# EAGLE library part USB_MICRO-B (library SparkFun-Connectors)
USB Type Micro-B Connector Male/female and PTH/SMT variants SparkFun Products: SparkFun microB USB Breakout <https://www.sparkfun.com/products/12035> SparkFun USB microB Plug Breakout <https://www.sparkfun.com/products/10031> SparkFun ESP8266 Thing <https://www.sparkfun.com/products/13231>
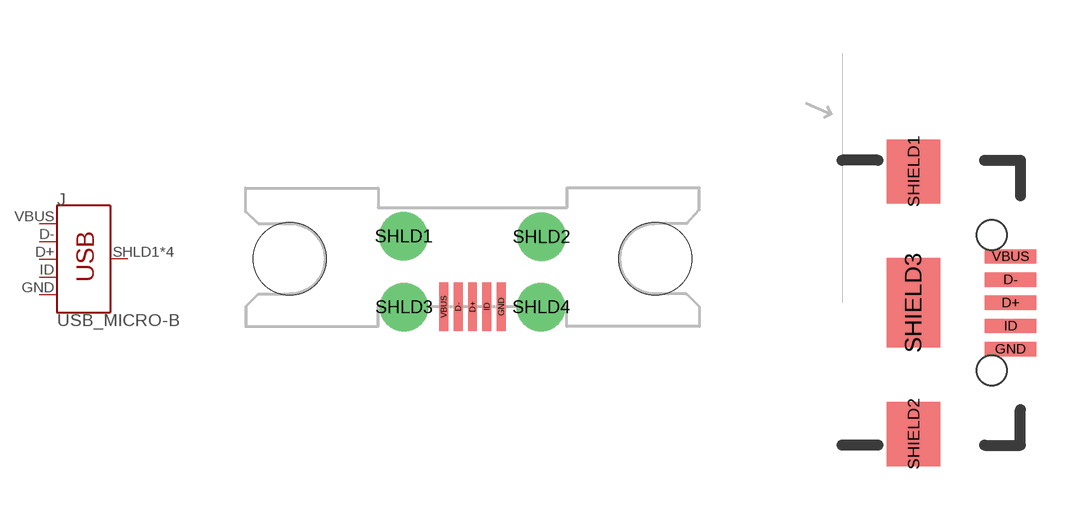
[diagram p43: symbol with the pads of USB_MICROB_VERTICAL; footprints USB_MICROB_VERTICAL, USB-B-MICRO-SMD]

Designator prefix J

## USB_MICRO-B_MALE-VERT (PROD_ID: CONN-09900)  [USB_MICROB_VERTICAL]
D+  D+
D-  D-
GND  GND  pwr
ID  ID
SHLD1  SHIELD
SHLD2  SHIELD
SHLD3  SHIELD
SHLD4  SHIELD
VBUS  VBUS  pwr

## USB_MICRO-B_FEMALE-SMT (PROD_ID: CONN-11752)  [USB-B-MICRO-SMD]
D+  D+
D-  D-
GND  GND  pwr
ID  ID
SHIELD1  SHIELD
SHIELD2  SHIELD
SHIELD3  SHIELD
VBUS  VBUS  pwr

## USB_MICRO-B_SMT (PROD_ID: CONN-09505; SF_ID: PRT-08533)  [USB-MICROB]
D+  D+
D-  D-
GND  GND  pwr
ID  ID
MT1  SHIELD
MT2  SHIELD
P$1  SHIELD
P$2  SHIELD
VBUS  VBUS  pwr

## USB_MICRO-BREDUCED_PASTE (PROD_ID: CONN-11752)  [USB-B-MICRO-SMD_RED_PASTE]
Pads as for USB-B-MICRO-SMD

## USB_MICRO-B_HALF_PTH (PROD_ID: CONN-13711; VALUE: AMP FCI 10103594-0001LF)  [USB-MICROB-PTH]
D+  D+
D-  D-
GND  GND  pwr
ID  ID
P$1  SHIELD
P$2  SHIELD
P$3  SHIELD
P$4  SHIELD
P$6  SHIELD
P$8  SHIELD
P$10  SHIELD
P$12  SHIELD
SHEILD2  SHIELD
SHIELD  SHIELD
SHIELD3  SHIELD
SHIELD4  SHIELD
VBUS  VBUS  pwr

## Footprint USB_MICROB_VERTICAL (pad centres in mm)
USB Micro-B Plug Connector Manufacturer part #: ZX80-B-5SA Manufacturer: Hirose Specifications: Pin count: 5 main, 4 shield Datasheet referenced for footprint <https://www.hirose.com/product/en/download_file/key_name/ZX/category/Catalog/doc_file_id/31704/?file_category_id=4&item_id=13&is_series=1> Example device(s): USB_Micro-B
smd 0.4 x 2.2: D+ 0,0; D- -0.65,0; GND 1.3,0; ID 0.65,0; VBUS -1.3,0
drill 1.016 pad 2.2: SHLD1 -3.121,3.183; SHLD2 3.122,3.16; SHLD3 -3.098,-0.027; SHLD4 3.108,-0.026
hole 3.3 at -8.275,2.17
hole 3.3 at 8.275,2.17

## Footprint USB-B-MICRO-SMD (pad centres in mm)
USB - microB SMD Specifications: Pin count:5 Datasheet referenced for footprint <https://www.sparkfun.com/datasheets/Prototyping/Micro-USB.pdf> Example device(s): USB_MICRO-B
smd 1.45 x 0.4: D+ 2.725,0; D- 2.725,0.65; GND 2.725,-1.3; ID 2.725,-0.65; VBUS 2.725,1.3
smd 1.5 x 1.8: SHIELD1 0,3.685; SHIELD2 0,-3.685
smd 1.5 x 2.5: SHIELD3 0,0
hole 0.85 at 2.2,1.9
hole 0.85 at 2.2,-1.9

## Footprint USB-MICROB (pad centres in mm)
USB Type microUSB Connector-No Bossed Pins Specifications: Pin count:5 pins, 4 shield connections Example device(s): USB_Micro-B
smd 1.4 x 0.35: D+ -2.65,0; D- -2.65,-0.65; GND -2.65,1.3; ID -2.65,0.65; VBUS -2.65,-1.3
smd 1.9 x 1.8: MT1 0,-4; MT2 0,4
smd 1.9 x 1.9: P$1 0,-1.27; P$2 0,1.27

## Footprint USB-B-MICRO-SMD_RED_PASTE (pad centres in mm)
USB - microB SMD Reduced Paste 70% paste area under D+ D- USBID pins for applications where those pins aren't required, to reduce the likelihood of bridges. Specifications: Pin count:5 Datasheet referenced for footprint <https://www.sparkfun.com/datasheets/Prototyping/Micro-USB.pdf> Example device(s): USB_MICRO-B
smd 1.45 x 0.4: D+ 2.725,0; D- 2.725,0.65; GND 2.725,-1.3; ID 2.725,-0.65; VBUS 2.725,1.3
smd 1.5 x 1.8: SHIELD1 0,3.685; SHIELD2 0,-3.685
smd 1.5 x 2.5: SHIELD3 0,0
hole 0.85 at 2.2,1.9
hole 0.85 at 2.2,-1.9

## Footprint USB-MICROB-PTH (pad centres in mm)
smd 0.4 x 1.75: D+ 0.031,1.331; D- -0.619,1.331; GND 1.331,1.331; ID 0.681,1.331; VBUS -1.269,1.331
smd 1.4 x 2.1 bottom: P$1 2.701,-1.142; P$3 -2.659,-1.144
smd 1 x 1.3: P$2 2.487,1.594; P$6 -2.368,1.604
smd 1 x 1.3 bottom: P$4 -2.368,1.604; P$10 2.481,1.598
smd 1.1 x 1.5: P$8 2.701,-1.142; P$12 -2.659,-1.144
smd 2 x 1.46: SHEILD2 2.831,1.606; SHIELD -2.794,1.606
smd 1.425 x 2.5: SHIELD3 -0.979,-1.349; SHIELD4 0.996,-1.352
hole 0.7 at -2.693,-1.134
hole 0.7 at -2.693,-1.3
hole 0.7 at -2.694,-1.499
hole 0.7 at -2.694,-1.664
hole 0.66 at -2.359,1.821
hole 0.66 at -2.349,1.691
hole 0.66 at -2.359,1.541
hole 0.66 at -2.354,1.432
hole 0.66 at 2.481,1.821
hole 0.66 at 2.491,1.691
hole 0.66 at 2.481,1.541
hole 0.66 at 2.486,1.432
hole 0.7 at 2.768,-1.134
hole 0.7 at 2.767,-1.303
hole 0.7 at 2.766,-1.496
hole 0.7 at 2.766,-1.664